# Altium footprint library Capacitors.PcbLib: 17 footprints (part 1 of 2)
Each footprint in its own frame and in the unit in brackets; x right, y up, seen from the top. Pads: shape width x height; smd on the part's side, far side on the other; paste and mask are expansions set on the pad; w line width, h text height; cw(c..) or ccw(c..) is an arc to the next point about the centre after c.
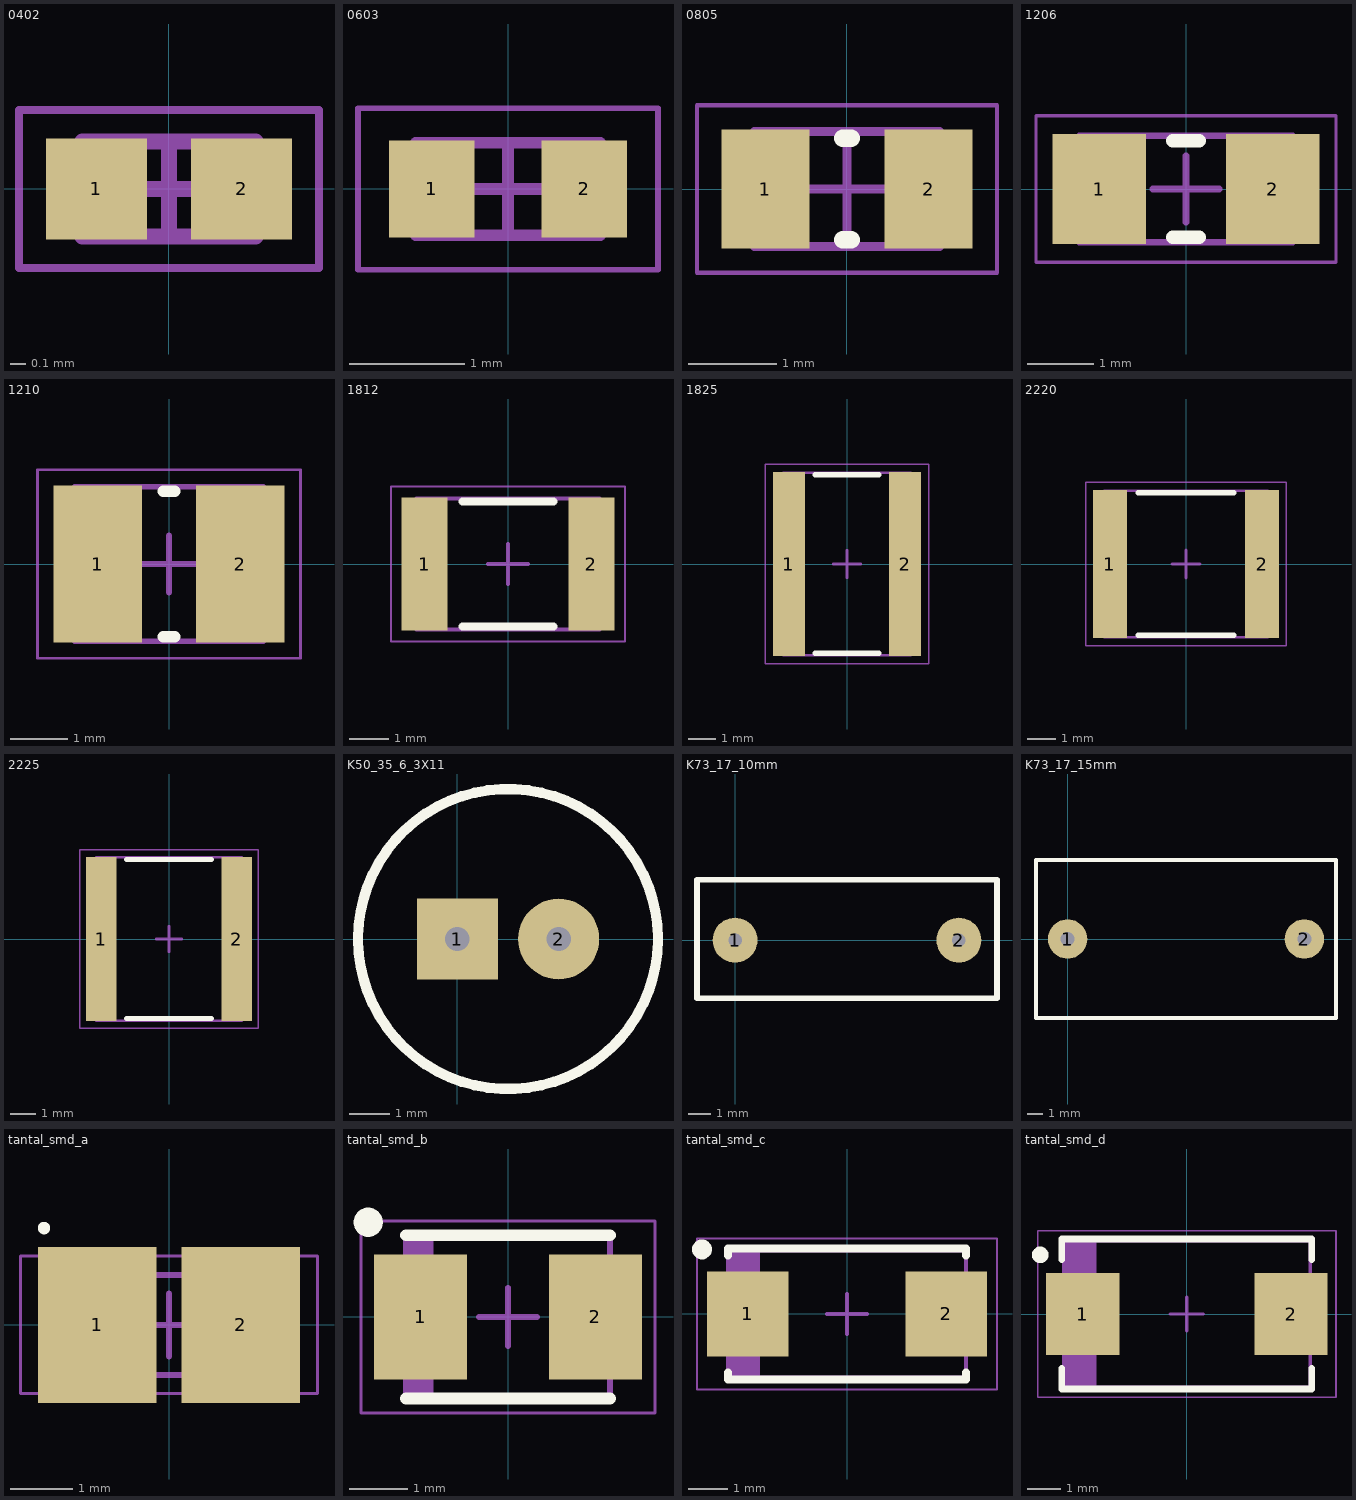
[diagram p0: the footprints below, top view; thin cyan lines are the x and y axes]

## 0402 [mm] "Chip Capacitor, 2-Leads, Body 1,00x0,50mm, IPC Medium Density"
height 0.6
pads (2):
  rect 0.64x0.64 smd: 1(-0.46,0) 2(0.46,0)
Top Assy:
  lines w0.1: -0.55,-0.3 0.55,-0.3 0.55,0.3 -0.55,0.3 -0.55,-0.3
Top ConturComponent:
  lines w0.05: -0.95,-0.5 0.95,-0.5 0.95,0.5 -0.95,0.5 -0.95,-0.5
  lines w0.1: -0.3,0 0.3,0 ; 0,-0.3 0,0.3
3D body "0402.step": height 0.6, standoff 0, extent -0.55,-0.3 0.55,0.3

## 0603 [mm] "Керамический конденсатор"
height 0.9
pads (2):
  rect 0.74x0.84 smd: 1(-0.66,0) 2(0.66,0)
Top Assy:
  lines w0.1: -0.8,-0.4 -0.8,0.4 0.8,0.4 0.8,-0.4 -0.8,-0.4
Top ConturComponent:
  lines w0.05: -1.3,-0.7 -1.3,0.7 1.3,0.7 1.3,-0.7 -1.3,-0.7
  lines w0.1: -0.4,0 0.4,0 ; 0,-0.4 0,0.4
3D body "0603.step": height 0.9, standoff 0, extent -0.8,-0.4 0.8,0.4

## 0805 [mm]
height 1.3
pads (2):
  rect 1x1.35 smd: 1(-0.925,0) 2(0.925,0)
Top Overlay:
  lines w0.2: -0.05,-0.575 0.05,-0.575 ; -0.05,0.575 0.05,0.575
Top Assy:
  lines w0.1: -1.05,-0.65 -1.05,0.65 1.05,0.65 1.05,-0.65 -1.05,-0.65
Top ConturComponent:
  lines w0.05: -1.7,-0.95 -1.7,0.95 1.7,0.95 1.7,-0.95 -1.7,-0.95
  lines w0.1: -0.5,0 0.5,0 ; 0,-0.5 0,0.5
3D body "0805.step": height 1.3, standoff 0, extent -1.05,-0.65 1.05,0.65

## 1206 [mm] "Керамический конденсатор"
height 1.5
pads (2):
  rect 1.4x1.65 smd: 1(-1.3,0) 2(1.3,0)
Top Overlay:
  lines w0.2: -0.2,-0.725 0.2,-0.725 ; -0.2,0.725 0.2,0.725
Top Assy:
  lines w0.1: -1.6,-0.8 -1.6,0.8 1.6,0.8 1.6,-0.8 -1.6,-0.8
Top ConturComponent:
  lines w0.05: -2.25,-1.1 -2.25,1.1 2.25,1.1 2.25,-1.1 -2.25,-1.1
  lines w0.1: -0.5,0 0.5,0 ; 0,-0.5 0,0.5
3D body "1206.step": height 1.5, standoff 0, extent -1.6,-0.8 1.6,0.8

## 1210 [mm]
height 1.7
pads (2):
  rect 1.55x2.75 smd: 1(-1.25,0) 2(1.25,0)
Top Overlay:
  lines w0.2: -0.1,-1.275 0.1,-1.275 ; -0.1,1.275 0.1,1.275
Top Assy:
  lines w0.1: -1.65,-1.35 1.65,-1.35 1.65,1.35 -1.65,1.35 -1.65,-1.35
Top ConturComponent:
  lines w0.05: -2.3,-1.65 2.3,-1.65 2.3,1.65 -2.3,1.65 -2.3,-1.65
  lines w0.1: -0.5,0 0.5,0 ; 0,-0.5 0,0.5
3D body "1210.step": height 1.7, standoff 0, extent -1.65,-1.35 1.65,1.35

## 1812 [mm]
height 1.7
pads (2):
  rect 1.15x3.35 smd: 1(-2.1,0) 2(2.1,0)
Top Overlay:
  lines w0.2: -1.15,-1.575 1.15,-1.575 ; -1.15,1.575 1.15,1.575
Top Assy:
  lines w0.1: -2.3,-1.65 -2.3,1.65 2.3,1.65 2.3,-1.65 -2.3,-1.65
Top ConturComponent:
  lines w0.05: -2.95,-1.95 -2.95,1.95 2.95,1.95 2.95,-1.95 -2.95,-1.95
  lines w0.1: -0.5,0 0.5,0 ; 0,-0.5 0,0.5
3D body "1812.step": height 1.7, standoff 0, extent -2.3,-1.65 2.3,1.65

## 1825 [mm]
height 1.7
pads (2):
  rect 1.15x6.65 smd: 1(-2.1,0) 2(2.1,0)
Top Overlay:
  lines w0.2: -1.15,-3.225 1.15,-3.225 ; -1.15,3.225 1.15,3.225
Top Assy:
  lines w0.1: -2.3,-3.3 -2.3,3.3 2.3,3.3 2.3,-3.3 -2.3,-3.3
Top ConturComponent:
  lines w0.05: -2.95,-3.6 -2.95,3.6 2.95,3.6 2.95,-3.6 -2.95,-3.6
  lines w0.1: -0.5,0 0.5,0 ; 0,-0.5 0,0.5
3D body "1825.step": height 1.7, standoff 0, extent -2.3,-3.3 2.3,3.3

## 2220 [mm]
height 1.8
pads (2):
  rect 1.2x5.25 smd: 1(-2.7,0) 2(2.7,0)
Top Overlay:
  lines w0.2: -1.7,-2.525 1.7,-2.525 ; -1.7,2.525 1.7,2.525
Top Assy:
  lines w0.1: -2.9,-2.6 2.9,-2.6 2.9,2.6 -2.9,2.6 -2.9,-2.6
Top ConturComponent:
  lines w0.05: -3.55,-2.9 3.55,-2.9 3.55,2.9 -3.55,2.9 -3.55,-2.9
  lines w0.1: -0.5,0 0.5,0 ; 0,-0.5 0,0.5
3D body "2220.step": height 1.8, standoff 0, extent -2.9,-2.6 2.9,2.6

## 2225 [mm]
height 2
pads (2):
  rect 1.2x6.55 smd: 1(-2.7,0) 2(2.7,0)
Top Overlay:
  lines w0.2: -1.7,-3.175 1.7,-3.175 ; -1.7,3.175 1.7,3.175
Top Assy:
  lines w0.1: -2.9,-3.25 2.9,-3.25 2.9,3.25 -2.9,3.25 -2.9,-3.25
Top ConturComponent:
  lines w0.05: -3.55,-3.55 3.55,-3.55 3.55,3.55 -3.55,3.55 -3.55,-3.55
  lines w0.1: -0.5,0 0.5,0 ; 0,-0.5 0,0.5
3D body "2225.step": height 2, standoff 0, extent -2.9,-3.25 2.9,3.25

## K50_35_6_3X11 [mm]
pads (2):
  rect 2x2 hole 0.6: 1(0,0)
  round 2 hole 0.6: 2(2.5,0)
Top Overlay:
  circle w0.254: c1.25,0 r3.7
3D body "K53_35_6_3x11x2_5.SLDPRT": height 11, standoff -3.2, extent -1.9,-3.149 4.402,3.149

## K73_17_10mm [mm] "Пленочный"
pads (2):
  round 2 hole 0.6: 1(0,0) 2(10,0)
Top Overlay:
  lines w0.254: -1.7,-2.6 -1.7,2.7 11.7,2.7 11.7,-2.6 -1.7,-2.6
3D body "MetalPolimer K73_17_10mm.SLDPRT": height 10.75, standoff -2.75, extent -1.5,-2.5 11.5,2.5

## K73_17_15mm [mm] "металопленочный конденсатор"
pads (2):
  round 2.5 hole 0.9: 1(0,0) 2(15,0)
Top Overlay:
  lines w0.254: -2,-5 -2,5 17,5 17,-5 -2,-5
3D body "K73_17_15mm.SLDPRT": height 16.25, standoff -2.25, extent -1.5,-4.5 16.5,4.5

## tantal_smd_a [mm] "Molded Capacitor, 2-Leads, Body 3,10x1,55mm"
height 1.8
pads (2):
  rect 1.9x2.5 smd: 1(-1.15,0) 2(1.15,0)
Top Overlay:
  circle w0.1: c-2,1.55 r0.05
Top Assy:
  rectangle: -1.6,-0.8 -1.17,0.8
  lines w0.1: -1.6,-0.8 1.6,-0.8 1.6,0.8 -1.6,0.8 -1.6,-0.8
Top ConturComponent:
  lines w0.05: -2.375,-1.1 2.375,-1.1 2.375,1.1 -2.375,1.1 -2.375,-1.1
  lines w0.1: -0.5,0 0.5,0 ; 0,-0.5 0,0.5
3D body "tantal_smd_a.step": height 1.8, standoff 0, extent -1.82,-0.8 1.82,0.8

## tantal_smd_b [mm]
height 1.9
pads (2):
  rect 1.6x2.15 smd: 1(-1.5,0) 2(1.5,0)
Top Overlay:
  circle w0.25: c-2.4,1.625 r0.125
  lines w0.2: -1.75,-1.4 1.75,-1.4 ; -1.75,1.4 1.75,1.4
Top Assy:
  rectangle: -1.75,-1.4 -1.279,1.4
  lines w0.1: -1.75,-1.4 -1.75,1.4 1.75,1.4 1.75,-1.4 -1.75,-1.4
Top ConturComponent:
  lines w0.05: -2.525,-1.65 -2.525,1.65 2.525,1.65 2.525,-1.65 -2.525,-1.65
  lines w0.1: -0.5,0 0.5,0 ; 0,-0.5 0,0.5
3D body "tantal_smd_b.step": height 1.9, standoff 0, extent -1.97,-1.4 1.97,1.4

## tantal_smd_c [mm]
height 2.5
pads (2):
  rect 2.05x2.15 smd: 1(-2.5,0) 2(2.5,0)
Top Overlay:
  circle w0.25: c-3.65,1.625 r0.125
  lines w0.2: -3,-1.475 -3,-1.65 3,-1.65 3,-1.475 ; -3,1.475 -3,1.65 3,1.65 3,1.475
Top Assy:
  rectangle: -3,-1.6 -2.193,1.6
  lines w0.1: -3,-1.6 3,-1.6 3,1.6 -3,1.6 -3,-1.6
Top ConturComponent:
  lines w0.05: -3.775,-1.9 3.775,-1.9 3.775,1.9 -3.775,1.9 -3.775,-1.9
  lines w0.1: -0.5,0 0.5,0 ; 0,-0.5 0,0.5
3D body "tantal_smd_c.step": height 2.5, standoff 0, extent -3.22,-1.6 3.22,1.6

## tantal_smd_d [mm]
height 2.8
pads (2):
  rect 2.2x2.45 smd: 1(-3.125,0) 2(3.125,0)
Top Overlay:
  circle w0.25: c-4.4,1.775 r0.125
  lines w0.2: -3.75,-1.625 -3.75,-2.25 3.75,-2.25 3.75,-1.625 ; -3.75,1.625 -3.75,2.25 3.75,2.25 3.75,1.625
Top Assy:
  rectangle: -3.7,-2.2 -2.705,2.2
  lines w0.1: -3.7,-2.2 -3.7,2.2 3.7,2.2 3.7,-2.2 -3.7,-2.2
Top ConturComponent:
  lines w0.05: -4.475,-2.5 -4.475,2.5 4.475,2.5 4.475,-2.5 -4.475,-2.5
  lines w0.1: -0.5,0 0.5,0 ; 0,-0.5 0,0.5
3D body "tantal_smd_d.step": height 2.8, standoff 0, extent -3.92,-2.2 3.92,2.2